# Altium footprint library LEMO-EXG.0B.306.PCBLIB: 1 footprints
Each footprint in its own frame and in the unit in brackets; x right, y up, seen from the top. Pads: shape width x height; smd on the part's side, far side on the other; paste and mask are expansions set on the pad; w line width, h text height; cw(c..) or ccw(c..) is an arc to the next point about the centre after c.
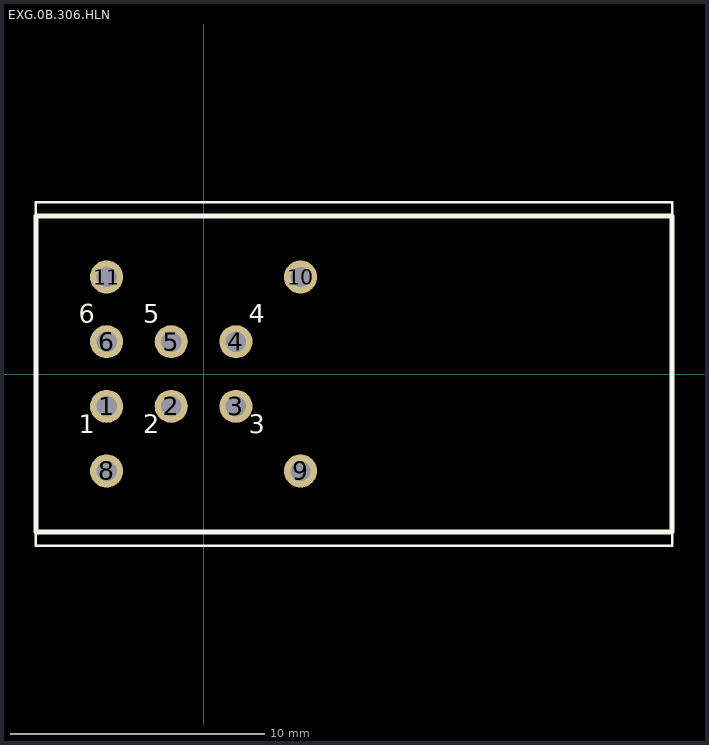
[diagram p0: the footprint, top view; thin cyan lines are the x and y axes]

## EXG.0B.306.HLN [mil]
pads (10):
  round 51.18 hole 31.5: 1(-150,-50) 2(-50,-50) 3(50,-50) 4(50,50) 5(-50,50) 6(-150,50) 8(-150,-150) 9(150,-150) 10(150,150) 11(-150,150)
Top Overlay:
  lines w3.94: -259.45,-265.75 -259.45,265.75 724.8,265.75 724.8,-265.75 -259.45,-265.75
  lines w7.87: -259.45,-244.09 -259.45,244.09 724.8,244.09 724.8,-244.09 -259.45,-244.09
  text "6" at -193.31,69.69 h48.83
  text "5" at -93.31,69.69 h48.83
  text "4" at 69.69,69.69 h48.83
  text "3" at 69.69,-101.18 h48.83
  text "2" at -93.31,-101.18 h48.83
  text "1" at -193.31,-101.18 h48.83